# EAGLE library part AM26LS32ACPW (library analog-devices)
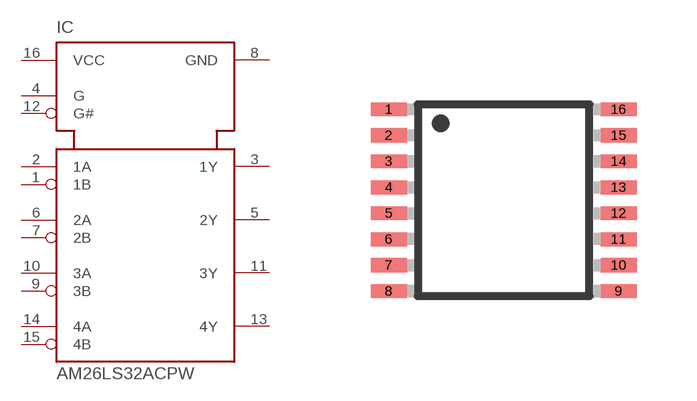
[diagram p1: symbol with the pads of TSSOP_16; footprint TSSOP_16]

Designator prefix IC

## AM26LS32ACPW  [TSSOP_16]
1  1B
2  1A
3  1Y
4  G
5  2Y
6  2A
7  2B
8  GND
9  3B
10  3A
11  3Y
12  G#
13  4Y
14  4A
15  4B
16  VCC

## Footprint TSSOP_16 (pad centres in mm)
smd 0.9 x 0.35: 1 -2.875,2.275; 2 -2.875,1.625; 3 -2.875,0.975; 4 -2.875,0.325; 5 -2.875,-0.325; 6 -2.875,-0.975; 7 -2.875,-1.625; 8 -2.875,-2.275; 9 2.875,-2.275; 10 2.875,-1.625; 11 2.875,-0.975; 12 2.875,-0.325; 13 2.875,0.325; 14 2.875,0.975; 15 2.875,1.625; 16 2.875,2.275